# Altium integrated library AD Operational Amplifier.IntLib: 1114 symbols (part 4 of 13)
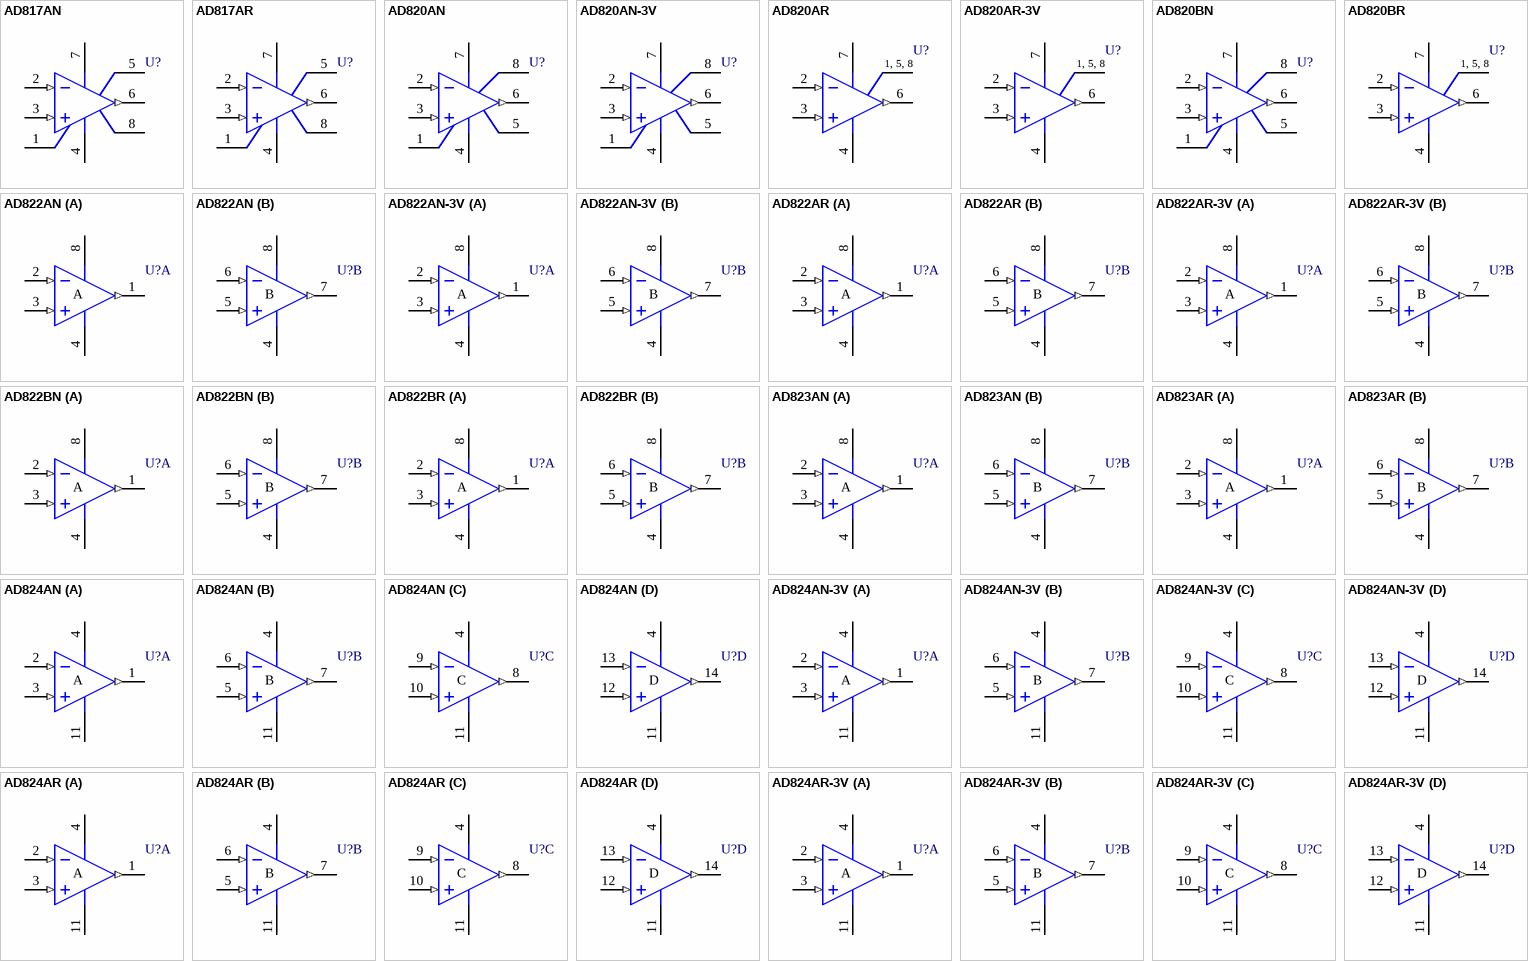
[diagram p49: symbols AD817AN to AD824AR-3V]

## AD817AR
designator U?
High-Speed, Low-Power Wide Supply Range Amplifier; Revision 1: 10-Jul-2000: SIM Model Added.; Revision 2: 17-Jul-2002: Re-released for DXP Platform.; Package Information: Latest Revision: revA; Note: Pin 5 is not connected.; Code - JEDEC: MS-012-AA; Code - IPC: SO8; Published: 8-Jun-2000; Datasheet: Latest Revision: REV. B 1995; Package Reference: SO-8; Publisher: Altium Limited
footprint SO-8 (Small Outline; 8 Leads; Body Width 3.9 mm; Pitch 1.27 mm)
simulation model AD817A (SUBCKT)
pins: 1 NULL1, 2 IN- (in), 3 IN+ (in), 4 V- (power), 5 NC, 6 OUT (out), 7 V+ (power), 8 NULL2

## AD820AN
designator U?
Single-Supply, Rail-to-Rail Low-Power FET-Input Operational Amplifier; Revision 1: 10-Jul-2000: SIM Model Added.; Revision 2: 17-Jul-2002: Re-released for DXP Platform.; Package Information: Latest Revision: revA; Note: Pin 8 is not connected.; Published: 8-Jun-2000; Datasheet: Designer's Reference Manual CD (REV. A); Package Reference: N-8; Publisher: Altium Limited
footprint N-8 (DIP; 8 Leads; Row Spacing 7.62 mm; Pitch 2.54 mm)
simulation model AD820A (SUBCKT)
pins: 1 OS NULL, 2 IN- (in), 3 IN+ (in), 4 V- (power), 5 OS NULL, 6 OUT (out), 7 V+ (power), 8 NC

## AD820AN-3V
designator U?
Single-Supply, Rail-to-Rail Low-Power FET-Input Operational Amplifier; Revision 1: 10-Jul-2000: SIM Model Added.; Revision 2: 17-Jul-2002: Re-released for DXP Platform.; Package Information: Latest Revision: revA; Note: Pin 8 is not connected.; Published: 8-Jun-2000; Datasheet: Designer's Reference Manual CD (REV. A); Package Reference: N-8; Publisher: Altium Limited
footprint N-8 (DIP; 8 Leads; Row Spacing 7.62 mm; Pitch 2.54 mm)
simulation model AD820A (SUBCKT)
pins: 1 OS NULL, 2 IN- (in), 3 IN+ (in), 4 V- (power), 5 OS NULL, 6 OUT (out), 7 V+ (power), 8 NC

## AD820AR
designator U?
Single-Supply, Rail-to-Rail Low-Power FET-Input Operational Amplifier; Revision 1: 10-Jul-2000: SIM Model Added.; Revision 2: 17-Jul-2002: Re-released for DXP Platform.; Package Information: Latest Revision: 1998; Note: Pins 1, 5 and 8 are not connected.; Published: 8-Jun-2000; Datasheet: Designer's Reference Manual CD (REV. A); Package Reference: R-8D; Publisher: Altium Limited
footprint R-8D (Small Outline; 8 Leads; Body Width 3.9 mm; Pitch 1.27 mm)
simulation model AD820A (SUBCKT)
pins: 1 NC, 2 IN- (in), 3 IN+ (in), 4 V- (power), 5 NC, 6 OUT (out), 7 V+ (power), 8 NC
text: 1, 5, 8

## AD820AR-3V
designator U?
Single-Supply, Rail-to-Rail Low-Power FET-Input Operational Amplifier; Revision 1: 10-Jul-2000: SIM Model Added.; Revision 2: 17-Jul-2002: Re-released for DXP Platform.; Package Information: Latest Revision: 1998; Note: Pins 1, 5 and 8 are not connected.; Published: 8-Jun-2000; Datasheet: Designer's Reference Manual CD (REV. A); Package Reference: R-8D; Publisher: Altium Limited
footprint R-8D (Small Outline; 8 Leads; Body Width 3.9 mm; Pitch 1.27 mm)
simulation model AD820A (SUBCKT)
pins: 1 NC, 2 IN- (in), 3 IN+ (in), 4 V- (power), 5 NC, 6 OUT (out), 7 V+ (power), 8 NC
text: 1, 5, 8

## AD820BN
designator U?
Single-Supply, Rail-to-Rail Low-Power FET-Input Operational Amplifier; Revision 1: 10-Jul-2000: SIM Model Added.; Revision 2: 17-Jul-2002: Re-released for DXP Platform.; Package Information: Latest Revision: revA; Note: Pin 8 is not connected.; Published: 8-Jun-2000; Datasheet: Designer's Reference Manual CD (REV. A); Package Reference: N-8; Publisher: Altium Limited
footprint N-8 (DIP; 8 Leads; Row Spacing 7.62 mm; Pitch 2.54 mm)
simulation model AD820B (SUBCKT)
pins: 1 OS NULL, 2 IN- (in), 3 IN+ (in), 4 V- (power), 5 OS NULL, 6 OUT (out), 7 V+ (power), 8 NC

## AD820BR
designator U?
Single-Supply, Rail-to-Rail Low-Power FET-Input Operational Amplifier; Revision 1: 10-Jul-2000: SIM Model Added.; Revision 2: 17-Jul-2002: Re-released for DXP Platform.; Package Information: Latest Revision: 1998; Note: Pins 1, 5 and 8 are not connected.; Published: 8-Jun-2000; Datasheet: Designer's Reference Manual CD (REV. A); Package Reference: R-8D; Publisher: Altium Limited
footprint R-8D (Small Outline; 8 Leads; Body Width 3.9 mm; Pitch 1.27 mm)
simulation model AD820B (SUBCKT)
pins: 1 NC, 2 IN- (in), 3 IN+ (in), 4 V- (power), 5 NC, 6 OUT (out), 7 V+ (power), 8 NC
text: 1, 5, 8

## AD822AN
designator U?
Single-Supply, Rail-to-Rail Low-Power FET-Input Operational Amplifier; Revision 1: 10-Jul-2000: SIM Model Added.; Revision 2: 17-Jul-2002: Re-released for DXP Platform.; Package Information: Latest Revision: revA; Published: 8-Jun-2000; Datasheet: Designer's Reference Manual CD (REV. A); Package Reference: N-8; Publisher: Altium Limited
footprint N-8 (DIP; 8 Leads; Row Spacing 7.62 mm; Pitch 2.54 mm)
simulation model AD822A (SUBCKT)
pins on every part: 4 V- (power), 8 V+ (power)
part A pins: 1 OUT (out), 2 IN- (in), 3 IN+ (in)
part B pins: 5 IN+ (in), 6 IN- (in), 7 OUT (out)
part A text: A
part B text: B

## AD822AN-3V
designator U?
Single-Supply, Rail-to-Rail Low-Power FET-Input Operational Amplifier; Revision 1: 10-Jul-2000: SIM Model Added.; Revision 2: 17-Jul-2002: Re-released for DXP Platform.; Package Information: Latest Revision: revA; Published: 8-Jun-2000; Datasheet: Designer's Reference Manual CD (REV. A); Package Reference: N-8; Publisher: Altium Limited
footprint N-8 (DIP; 8 Leads; Row Spacing 7.62 mm; Pitch 2.54 mm)
simulation model AD822A (SUBCKT)
pins on every part: 4 V- (power), 8 V+ (power)
part A pins: 1 OUT (out), 2 IN- (in), 3 IN+ (in)
part B pins: 5 IN+ (in), 6 IN- (in), 7 OUT (out)
part A text: A
part B text: B

## AD822AR
designator U?
Single-Supply, Rail-to-Rail Low-Power FET-Input Operational Amplifier; Revision 1: 10-Jul-2000: SIM Model Added.; Revision 2: 17-Jul-2002: Re-released for DXP Platform.; Package Information: Latest Revision: 1998; Published: 8-Jun-2000; Datasheet: Designer's Reference Manual CD (REV. A); Package Reference: R-8D; Publisher: Altium Limited
footprint R-8D (Small Outline; 8 Leads; Body Width 3.9 mm; Pitch 1.27 mm)
simulation model AD822A (SUBCKT)
pins on every part: 4 V- (power), 8 V+ (power)
part A pins: 1 OUT (out), 2 IN- (in), 3 IN+ (in)
part B pins: 5 IN+ (in), 6 IN- (in), 7 OUT (out)
part A text: A
part B text: B

## AD822AR-3V
designator U?
Single-Supply, Rail-to-Rail Low-Power FET-Input Operational Amplifier; Revision 1: 10-Jul-2000: SIM Model Added.; Revision 2: 17-Jul-2002: Re-released for DXP Platform.; Package Information: Latest Revision: 1998; Published: 8-Jun-2000; Datasheet: Designer's Reference Manual CD (REV. A); Package Reference: R-8D; Publisher: Altium Limited
footprint R-8D (Small Outline; 8 Leads; Body Width 3.9 mm; Pitch 1.27 mm)
simulation model AD822A (SUBCKT)
pins on every part: 4 V- (power), 8 V+ (power)
part A pins: 1 OUT (out), 2 IN- (in), 3 IN+ (in)
part B pins: 5 IN+ (in), 6 IN- (in), 7 OUT (out)
part A text: A
part B text: B

## AD822BN
designator U?
Single-Supply, Rail-to-Rail Low-Power FET-Input Operational Amplifier; Revision 1: 10-Jul-2000: SIM Model Added.; Revision 2: 17-Jul-2002: Re-released for DXP Platform.; Package Information: Latest Revision: revA; Published: 8-Jun-2000; Datasheet: Designer's Reference Manual CD (REV. A); Package Reference: N-8; Publisher: Altium Limited
footprint N-8 (DIP; 8 Leads; Row Spacing 7.62 mm; Pitch 2.54 mm)
simulation model AD822B (SUBCKT)
pins on every part: 4 V- (power), 8 V+ (power)
part A pins: 1 OUT (out), 2 IN- (in), 3 IN+ (in)
part B pins: 5 IN+ (in), 6 IN- (in), 7 OUT (out)
part A text: A
part B text: B

## AD822BR
designator U?
Single-Supply, Rail-to-Rail Low-Power FET-Input Operational Amplifier; Revision 1: 10-Jul-2000: SIM Model Added.; Revision 2: 17-Jul-2002: Re-released for DXP Platform.; Package Information: Latest Revision: 1998; Published: 8-Jun-2000; Datasheet: Designer's Reference Manual CD (REV. A); Package Reference: R-8D; Publisher: Altium Limited
footprint R-8D (Small Outline; 8 Leads; Body Width 3.9 mm; Pitch 1.27 mm)
simulation model AD822B (SUBCKT)
pins on every part: 4 V- (power), 8 V+ (power)
part A pins: 1 OUT (out), 2 IN- (in), 3 IN+ (in)
part B pins: 5 IN+ (in), 6 IN- (in), 7 OUT (out)
part A text: A
part B text: B

## AD823AN
designator U?
Dual, 16MHz, Rail-to-Rail FET-Input Amplifier; Revision 1: 10-Jul-2000: SIM Model Added.; Revision 2: 17-Jul-2002: Re-released for DXP Platform.; Package Information: Latest Revision: revA; Published: 8-Jun-2000; Datasheet: Latest Revision: REV. 0 1995; Package Reference: N-8; Publisher: Altium Limited
footprint N-8 (DIP; 8 Leads; Row Spacing 7.62 mm; Pitch 2.54 mm)
simulation model AD823AN (SUBCKT)
pins on every part: 4 V- (power), 8 V+ (power)
part A pins: 1 OUT (out), 2 IN- (in), 3 IN+ (in)
part B pins: 5 IN+ (in), 6 IN- (in), 7 OUT (out)
part A text: A
part B text: B

## AD823AR
designator U?
Dual, 16MHz, Rail-to-Rail FET-Input Amplifier; Revision 1: 10-Jul-2000: SIM Model Added.; Revision 2: 17-Jul-2002: Re-released for DXP Platform.; Package Information: Latest Revision: revA; Code - JEDEC: MS-012-AA; Code - IPC: SO8; Published: 8-Jun-2000; Datasheet: Latest Revision: REV. 0 1995; Package Reference: SO-8; Publisher: Altium Limited
footprint SO-8 (Small Outline; 8 Leads; Body Width 3.9 mm; Pitch 1.27 mm)
simulation model AD823AN (SUBCKT)
pins on every part: 4 V- (power), 8 V+ (power)
part A pins: 1 OUT (out), 2 IN- (in), 3 IN+ (in)
part B pins: 5 IN+ (in), 6 IN- (in), 7 OUT (out)
part A text: A
part B text: B

## AD824AN
designator U?
Single-Supply, Rail-to-Rail Low-Power, FET-Input Operational Amplifier; Package Information: Latest Revision: 1999; Published: 8-Jun-2000; Revision: 17-Jul-2002: Re-released for DXP Platform.; Datasheet: Latest Revision: REV. A 1997; Package Reference: N-14; Publisher: Altium Limited
footprint N-14 (DIP; 14 Leads; Row Spacing 7.62 mm; Pitch 2.54 mm)
pins on every part: 4 V+ (power), 11 V- (power)
part A pins: 1 OUT (out), 2 IN- (in), 3 IN+ (in)
part B pins: 5 IN+ (in), 6 IN- (in), 7 OUT (out)
part C pins: 8 OUT (out), 9 IN- (in), 10 IN+ (in)
part D pins: 12 IN+ (in), 13 IN- (in), 14 OUT (out)
part A text: A
part B text: B
part C text: C
part D text: D

## AD824AN-3V
designator U?
Single-Supply, Rail-to-Rail Low-Power, FET-Input Operational Amplifier; Package Information: Latest Revision: 1999; Published: 8-Jun-2000; Revision: 17-Jul-2002: Re-released for DXP Platform.; Datasheet: Latest Revision: REV. A 1997; Package Reference: N-14; Publisher: Altium Limited
footprint N-14 (DIP; 14 Leads; Row Spacing 7.62 mm; Pitch 2.54 mm)
pins on every part: 4 V+ (power), 11 V- (power)
part A pins: 1 OUT (out), 2 IN- (in), 3 IN+ (in)
part B pins: 5 IN+ (in), 6 IN- (in), 7 OUT (out)
part C pins: 8 OUT (out), 9 IN- (in), 10 IN+ (in)
part D pins: 12 IN+ (in), 13 IN- (in), 14 OUT (out)
part A text: A
part B text: B
part C text: C
part D text: D

## AD824AR
designator U?
Single-Supply, Rail-to-Rail Low-Power, FET-Input Operational Amplifier; Package Information: Latest Revision: rev0, 1997; Code - JEDEC: MS-012-AB; Code - IPC: SO14; Published: 8-Jun-2000; Revision: 17-Jul-2002: Re-released for DXP Platform.; Datasheet: Latest Revision: REV. A 1997; Package Reference: R-14; Publisher: Altium Limited
footprint R-14 (Small Outline; 14 Leads; Body Width 3.9 mm; Pitch 1.27 mm)
pins on every part: 4 V+ (power), 11 V- (power)
part A pins: 1 OUT (out), 2 IN- (in), 3 IN+ (in)
part B pins: 5 IN+ (in), 6 IN- (in), 7 OUT (out)
part C pins: 8 OUT (out), 9 IN- (in), 10 IN+ (in)
part D pins: 12 IN+ (in), 13 IN- (in), 14 OUT (out)
part A text: A
part B text: B
part C text: C
part D text: D

## AD824AR-3V
designator U?
Single-Supply, Rail-to-Rail Low-Power, FET-Input Operational Amplifier; Package Information: Latest Revision: rev0, 1997; Code - JEDEC: MS-012-AB; Code - IPC: SO14; Published: 8-Jun-2000; Revision: 17-Jul-2002: Re-released for DXP Platform.; Datasheet: Latest Revision: REV. A 1997; Package Reference: R-14; Publisher: Altium Limited
footprint R-14 (Small Outline; 14 Leads; Body Width 3.9 mm; Pitch 1.27 mm)
pins on every part: 4 V+ (power), 11 V- (power)
part A pins: 1 OUT (out), 2 IN- (in), 3 IN+ (in)
part B pins: 5 IN+ (in), 6 IN- (in), 7 OUT (out)
part C pins: 8 OUT (out), 9 IN- (in), 10 IN+ (in)
part D pins: 12 IN+ (in), 13 IN- (in), 14 OUT (out)
part A text: A
part B text: B
part C text: C
part D text: D

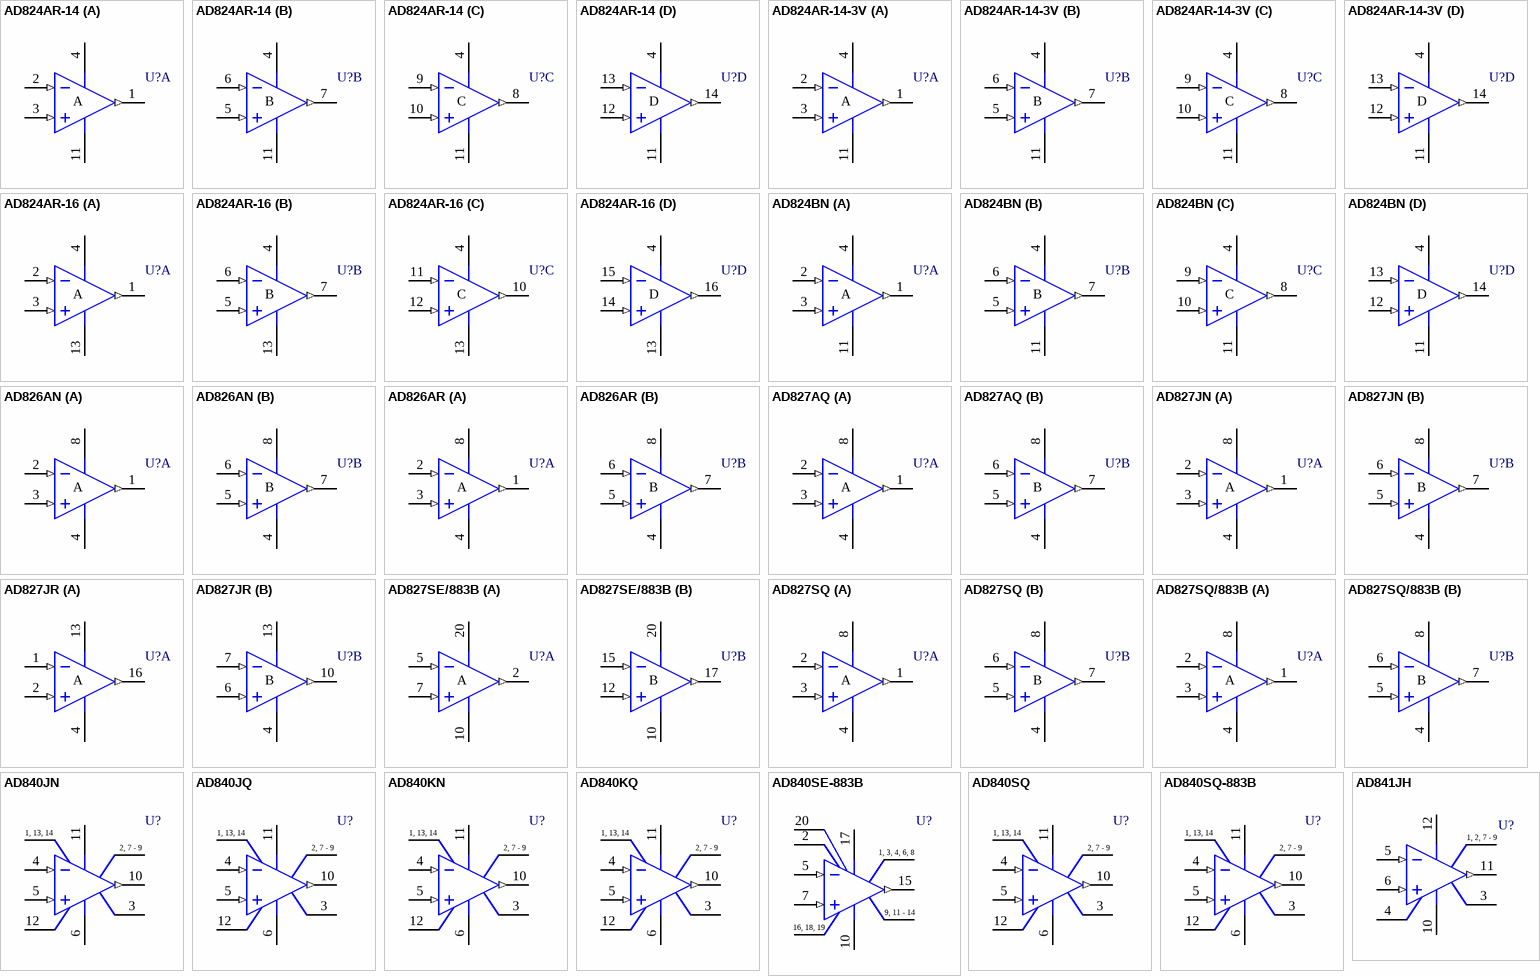
[diagram p11: symbols AD824AR-14 to AD841JH]

## AD824AR-14
designator U?
Single-Supply, Rail-to-Rail Low-Power, FET-Input Operational Amplifier; Package Information: Latest Revision: rev0, 1997; Code - JEDEC: MS-012-AB; Code - IPC: SO14; Published: 8-Jun-2000; Revision: 17-Jul-2002: Re-released for DXP Platform.; Datasheet: Latest Revision: REV. A 1997; Package Reference: R-14; Publisher: Altium Limited
footprint R-14 (Small Outline; 14 Leads; Body Width 3.9 mm; Pitch 1.27 mm)
pins on every part: 4 V+ (power), 11 V- (power)
part A pins: 1 OUT (out), 2 IN- (in), 3 IN+ (in)
part B pins: 5 IN+ (in), 6 IN- (in), 7 OUT (out)
part C pins: 8 OUT (out), 9 IN- (in), 10 IN+ (in)
part D pins: 12 IN+ (in), 13 IN- (in), 14 OUT (out)
part A text: A
part B text: B
part C text: C
part D text: D

## AD824AR-14-3V
designator U?
Single-Supply, Rail-to-Rail Low-Power, FET-Input Operational Amplifier; Package Information: Latest Revision: rev0, 1997; Code - JEDEC: MS-012-AB; Code - IPC: SO14; Published: 8-Jun-2000; Revision: 17-Jul-2002: Re-released for DXP Platform.; Datasheet: Latest Revision: REV. A 1997; Package Reference: R-14; Publisher: Altium Limited
footprint R-14 (Small Outline; 14 Leads; Body Width 3.9 mm; Pitch 1.27 mm)
pins on every part: 4 V+ (power), 11 V- (power)
part A pins: 1 OUT (out), 2 IN- (in), 3 IN+ (in)
part B pins: 5 IN+ (in), 6 IN- (in), 7 OUT (out)
part C pins: 8 OUT (out), 9 IN- (in), 10 IN+ (in)
part D pins: 12 IN+ (in), 13 IN- (in), 14 OUT (out)
part A text: A
part B text: B
part C text: C
part D text: D

## AD824AR-16
designator U?
Single-Supply, Rail-to-Rail Low-Power, FET-Input Operational Amplifier; Revision 1: 17-Jul-2002: Re-released for DXP Platform.; Revision 2: 21-May-2003: Pin 10 electrical type changed to 'Output'.; Package Information: Latest Revision: revA 1996; Note: Pins 8 and 9 are not connected; Code - JEDEC: MS-013-AA; Code - IPC: SO16W; Published: 8-Jun-2000; Datasheet: Latest Revision: REV. A 1997; Package Reference: R-16; Publisher: Altium Limited
footprint R-16 (Small Outline; 16 Leads; Body Width 7.5 mm; Pitch 1.27 mm)
pins on every part: 4 V+ (power), 13 V- (power)
part A pins: 1 OUT (out), 2 IN- (in), 3 IN+ (in)
part B pins: 5 IN+ (in), 6 IN- (in), 7 OUT (out)
part C pins: 10 OUT (out), 11 IN- (in), 12 IN+ (in)
part D pins: 14 IN+ (in), 15 IN- (in), 16 OUT (out)
part A text: A
part B text: B
part C text: C
part D text: D

## AD824BN
designator U?
Single-Supply, Rail-to-Rail Low-Power, FET-Input Operational Amplifier; Revision 1: 10-Jul-2000: SIM Model Added.; Revision 2: 17-Jul-2002: Re-released for DXP Platform.; Package Information: Latest Revision: 1999; Published: 8-Jun-2000; Datasheet: Latest Revision: REV. A 1997; Package Reference: N-14; Publisher: Altium Limited
footprint N-14 (DIP; 14 Leads; Row Spacing 7.62 mm; Pitch 2.54 mm)
simulation model AD824B (SUBCKT)
pins on every part: 4 V+ (power), 11 V- (power)
part A pins: 1 OUT (out), 2 IN- (in), 3 IN+ (in)
part B pins: 5 IN+ (in), 6 IN- (in), 7 OUT (out)
part C pins: 8 OUT (out), 9 IN- (in), 10 IN+ (in)
part D pins: 12 IN+ (in), 13 IN- (in), 14 OUT (out)
part A text: A
part B text: B
part C text: C
part D text: D

## AD826AN
designator U?
High-Speed, Low-Power Dual Operational Amplifier; Revision 1: 10-Jul-2000: SIM Model Added.; Revision 2: 17-Jul-2002: Re-released for DXP Platform.; Package Information: Latest Revision: revA; Published: 8-Jun-2000; Datasheet: Latest Revision: REV. A 1995; Package Reference: N-8; Publisher: Altium Limited
footprint N-8 (DIP; 8 Leads; Row Spacing 7.62 mm; Pitch 2.54 mm)
simulation model AD826A (SUBCKT)
pins on every part: 4 V- (power), 8 V+ (power)
part A pins: 1 OUT (out), 2 IN- (in), 3 IN+ (in)
part B pins: 5 IN+ (in), 6 IN- (in), 7 OUT (out)
part A text: A
part B text: B

## AD826AR
designator U?
High-Speed, Low-Power Dual Operational Amplifier; Revision 1: 10-Jul-2000: SIM Model Added.; Revision 2: 17-Jul-2002: Re-released for DXP Platform.; Package Information: Latest Revision: 1998; Published: 8-Jun-2000; Datasheet: Latest Revision: REV. A 1995; Package Reference: R-8D; Publisher: Altium Limited
footprint R-8D (Small Outline; 8 Leads; Body Width 3.9 mm; Pitch 1.27 mm)
simulation model AD826A (SUBCKT)
pins on every part: 4 V- (power), 8 V+ (power)
part A pins: 1 OUT (out), 2 IN- (in), 3 IN+ (in)
part B pins: 5 IN+ (in), 6 IN- (in), 7 OUT (out)
part A text: A
part B text: B

## AD827AQ
designator U?
High-Speed, Low-Power Dual Operational Amplifier; Package Information: Latest Revision: 1998; Published: 8-Jun-2000; Revision: 17-Jul-2002: Re-released for DXP Platform.; Datasheet: Latest Revision: REV. B; Package Reference: Q-8; Publisher: Altium Limited
footprint Q-8 (DIP; 8 Leads; Row Spacing 7.62 mm; Pitch 2.54 mm)
pins on every part: 4 V- (power), 8 V+ (power)
part A pins: 1 OUT (out), 2 IN- (in), 3 IN+ (in)
part B pins: 5 IN+ (in), 6 IN- (in), 7 OUT (out)
part A text: A
part B text: B

## AD827JN
designator U?
High-Speed, Low-Power Dual Operational Amplifier; Package Information: Latest Revision: revA; Published: 8-Jun-2000; Revision: 17-Jul-2002: Re-released for DXP Platform.; Datasheet: Latest Revision: REV. B; Package Reference: N-8; Publisher: Altium Limited
footprint N-8 (DIP; 8 Leads; Row Spacing 7.62 mm; Pitch 2.54 mm)
pins on every part: 4 V- (power), 8 V+ (power)
part A pins: 1 OUT (out), 2 IN- (in), 3 IN+ (in)
part B pins: 5 IN+ (in), 6 IN- (in), 7 OUT (out)
part A text: A
part B text: B

## AD827JR
designator U?
High-Speed, Low-Power Dual Operational Amplifier; Package Information: Latest Revision: revA 1996; Note: Pins 3, 5, 8, 9, 11, 12, 14 and 15 are not connected (NC) and are not drawn.; Code - JEDEC: MS-013-AA; Code - IPC: SO16W; Published: 8-Jun-2000; Revision: 17-Jul-2002: Re-released for DXP Platform.; Datasheet: Latest Revision: REV. B; Package Reference: R-16; Publisher: Altium Limited
footprint R-16 (Small Outline; 16 Leads; Body Width 7.5 mm; Pitch 1.27 mm)
pins on every part: 4 V- (power), 13 V+ (power)
part A pins: 1 IN- (in), 2 IN+ (in), 16 OUT (out)
part B pins: 6 IN+ (in), 7 IN- (in), 10 OUT (out)
part A text: A
part B text: B

## AD827SE/883B
designator U?
High-Speed, Low-Power Dual Operational Amplifier; Note: Pins 1, 3, 4, 6, 8, 9, 11, 13, 14, 16, 18 and 19 are not connected (NC) and are not drawn.; Published: 8-Jun-2000; Revision: 17-Jul-2002: Re-released for DXP Platform.; Datasheet: Latest Revision: REV. B; Package Reference: E-20A; Publisher: Altium Limited
footprint E-20A (Leadless Chip Carrier; 20 Terminals; Body 8.9 x 8.9 mm)
pins on every part: 10 V- (power), 20 V+ (power)
part A pins: 2 OUT (out), 5 IN- (in), 7 IN+ (in)
part B pins: 12 IN+ (in), 15 IN- (in), 17 OUT (out)
part A text: A
part B text: B

## AD827SQ
designator U?
High-Speed, Low-Power Dual Operational Amplifier; Package Information: Latest Revision: 1998; Published: 8-Jun-2000; Revision: 17-Jul-2002: Re-released for DXP Platform.; Datasheet: Latest Revision: REV. B; Package Reference: Q-8; Publisher: Altium Limited
footprint Q-8 (DIP; 8 Leads; Row Spacing 7.62 mm; Pitch 2.54 mm)
pins on every part: 4 V- (power), 8 V+ (power)
part A pins: 1 OUT (out), 2 IN- (in), 3 IN+ (in)
part B pins: 5 IN+ (in), 6 IN- (in), 7 OUT (out)
part A text: A
part B text: B

## AD827SQ/883B
designator U?
High-Speed, Low-Power Dual Operational Amplifier; Package Information: Latest Revision: 1998; Published: 8-Jun-2000; Revision: 17-Jul-2002: Re-released for DXP Platform.; Datasheet: Latest Revision: REV. B; Package Reference: Q-8; Publisher: Altium Limited
footprint Q-8 (DIP; 8 Leads; Row Spacing 7.62 mm; Pitch 2.54 mm)
pins on every part: 4 V- (power), 8 V+ (power)
part A pins: 1 OUT (out), 2 IN- (in), 3 IN+ (in)
part B pins: 5 IN+ (in), 6 IN- (in), 7 OUT (out)
part A text: A
part B text: B

## AD840JN
designator U?
Wideband, Fast-Settling Operational Amplifier; Revision 1: 10-Jul-2000: SIM Model Added.; Revision 2: 17-Jul-2002: Re-released for DXP Platform.; Package Information: Latest Revision: revC; Note: Pins 1, 2, 7, 8, 9, 13 and 14 are not connected.; Published: 8-Jun-2000; Datasheet: Designer's Reference Manual CD (REV. C); Package Reference: N-14B; Publisher: Altium Limited
footprint N-14B (DIP; 14 Leads; Row Spacing 7.62 mm; Pitch 2.54 mm)
simulation model AD840J (SUBCKT)
pins: 1 NC, 2 NC, 3 OS NULL, 4 IN- (in), 5 IN+ (in), 6 V- (power), 7 NC, 8 NC, 9 NC, 10 OUT (out), 11 V+ (power), 12 OS NULL, 13 NC, 14 NC
text: 1, 13, 14; 2, 7 - 9

## AD840JQ
designator U?
Wideband, Fast-Settling Operational Amplifier; Revision 1: 10-Jul-2000: SIM Model Added.; Revision 2: 17-Jul-2002: Re-released for DXP Platform.; Package Information: Latest Revision: revC; Note: Pins 1, 2, 7, 8, 9, 13 and 14 are not connected.; Published: 8-Jun-2000; Datasheet: Designer's Reference Manual CD (REV. C); Package Reference: Q-14A; Publisher: Altium Limited
footprint Q-14A (DIP; 14 Leads; Row Spacing 7.62 mm; Pitch 2.54 mm)
simulation model AD840J (SUBCKT)
pins: 1 NC, 2 NC, 3 OS NULL, 4 IN- (in), 5 IN+ (in), 6 V- (power), 7 NC, 8 NC, 9 NC, 10 OUT (out), 11 V+ (power), 12 OS NULL, 13 NC, 14 NC
text: 1, 13, 14; 2, 7 - 9

## AD840KN
designator U?
Wideband, Fast-Settling Operational Amplifier; Revision 1: 10-Jul-2000: SIM Model Added.; Revision 2: 17-Jul-2002: Re-released for DXP Platform.; Package Information: Latest Revision: revC; Note: Pins 1, 2, 7, 8, 9, 13 and 14 are not connected.; Published: 8-Jun-2000; Datasheet: Designer's Reference Manual CD (REV. C); Package Reference: N-14B; Publisher: Altium Limited
footprint N-14B (DIP; 14 Leads; Row Spacing 7.62 mm; Pitch 2.54 mm)
simulation model AD840K (SUBCKT)
pins: 1 NC, 2 NC, 3 OS NULL, 4 IN- (in), 5 IN+ (in), 6 V- (power), 7 NC, 8 NC, 9 NC, 10 OUT (out), 11 V+ (power), 12 OS NULL, 13 NC, 14 NC
text: 1, 13, 14; 2, 7 - 9

## AD840KQ
designator U?
Wideband, Fast-Settling Operational Amplifier; Revision 1: 10-Jul-2000: SIM Model Added.; Revision 2: 17-Jul-2002: Re-released for DXP Platform.; Package Information: Latest Revision: revC; Note: Pins 1, 2, 7, 8, 9, 13 and 14 are not connected.; Published: 8-Jun-2000; Datasheet: Designer's Reference Manual CD (REV. C); Package Reference: Q-14A; Publisher: Altium Limited
footprint Q-14A (DIP; 14 Leads; Row Spacing 7.62 mm; Pitch 2.54 mm)
simulation model AD840K (SUBCKT)
pins: 1 NC, 2 NC, 3 OS NULL, 4 IN- (in), 5 IN+ (in), 6 V- (power), 7 NC, 8 NC, 9 NC, 10 OUT (out), 11 V+ (power), 12 OS NULL, 13 NC, 14 NC
text: 1, 13, 14; 2, 7 - 9

## AD840SE-883B
designator U?
Wideband, Fast-Settling Operational Amplifier; Revision 1: 10-Jul-2000: SIM Model Added.; Revision 2: 17-Jul-2002: Re-released for DXP Platform.; Note: Pins 1, 3, 4, 6, 8, 9, 11, 12, 13, 14, 16, 18 and 19 are not connected.; Published: 8-Jun-2000; Datasheet: Designer's Reference Manual CD (REV. C); Package Reference: E-20A; Publisher: Altium Limited
footprint E-20A (Leadless Chip Carrier; 20 Terminals; Body 8.9 x 8.9 mm)
simulation model AD840S (SUBCKT)
pins: 1 NC, 2 OS NULL, 3 NC, 4 NC, 5 IN- (in), 6 NC, 7 IN+ (in), 8 NC, 9 NC, 10 V- (power), 11 NC, 12 NC, 13 NC, 14 NC, 15 OUT (out), 16 NC, 17 V+ (power), 18 NC, 19 NC, 20 OS NULL
text: 1, 3, 4, 6, 8; 9, 11 - 14; 16, 18, 19

## AD840SQ
designator U?
Wideband, Fast-Settling Operational Amplifier; Revision 1: 10-Jul-2000: SIM Model Added.; Revision 2: 17-Jul-2002: Re-released for DXP Platform.; Package Information: Latest Revision: revC; Note: Pins 1, 2, 7, 8, 9, 13 and 14 are not connected.; Published: 8-Jun-2000; Datasheet: Designer's Reference Manual CD (REV. C); Package Reference: Q-14A; Publisher: Altium Limited
footprint Q-14A (DIP; 14 Leads; Row Spacing 7.62 mm; Pitch 2.54 mm)
simulation model AD840S (SUBCKT)
pins: 1 NC, 2 NC, 3 OS NULL, 4 IN- (in), 5 IN+ (in), 6 V- (power), 7 NC, 8 NC, 9 NC, 10 OUT (out), 11 V+ (power), 12 OS NULL, 13 NC, 14 NC
text: 1, 13, 14; 2, 7 - 9

## AD840SQ-883B
designator U?
Wideband, Fast-Settling Operational Amplifier; Revision 1: 10-Jul-2000: SIM Model Added.; Revision 2: 17-Jul-2002: Re-released for DXP Platform.; Package Information: Latest Revision: revC; Note: Pins 1, 2, 7, 8, 9, 13 and 14 are not connected.; Published: 8-Jun-2000; Datasheet: Designer's Reference Manual CD (REV. C); Package Reference: Q-14A; Publisher: Altium Limited
footprint Q-14A (DIP; 14 Leads; Row Spacing 7.62 mm; Pitch 2.54 mm)
simulation model AD840S (SUBCKT)
pins: 1 NC, 2 NC, 3 OS NULL, 4 IN- (in), 5 IN+ (in), 6 V- (power), 7 NC, 8 NC, 9 NC, 10 OUT (out), 11 V+ (power), 12 OS NULL, 13 NC, 14 NC
text: 1, 13, 14; 2, 7 - 9

## AD841JH
designator U?
Wideband, Unity-Gain Stable, Fast-Settling Operational Amplifier; Revision 1: 17-Jul-2002: Re-released for DXP Platform.; Revision 2: 28-Feb-2003: PCB Footprint, 'QCAN-12/X1.4' replaced.; Package Information: Latest Revision: revC, 1990; Note: Pins 1, 2, 7, 8 and 9 are not connected; Pin 12 connected to case; Published: 8-Jun-2000; Datasheet: Latest Revision: REV. B; Package Reference: H-12A; Publisher: Altium Limited
footprint H-12A (Can; 12 Leads; 10.16 mm Square Array; Lead Dia. 0.53 mm (max))
pins: 1 NC, 2 NC, 3 BAL, 4 BAL, 5 IN- (in), 6 IN+ (in), 7 NC, 8 NC, 9 NC, 10 V- (power), 11 OUT (out), 12 V+ (power)
text: 1, 2, 7 - 9

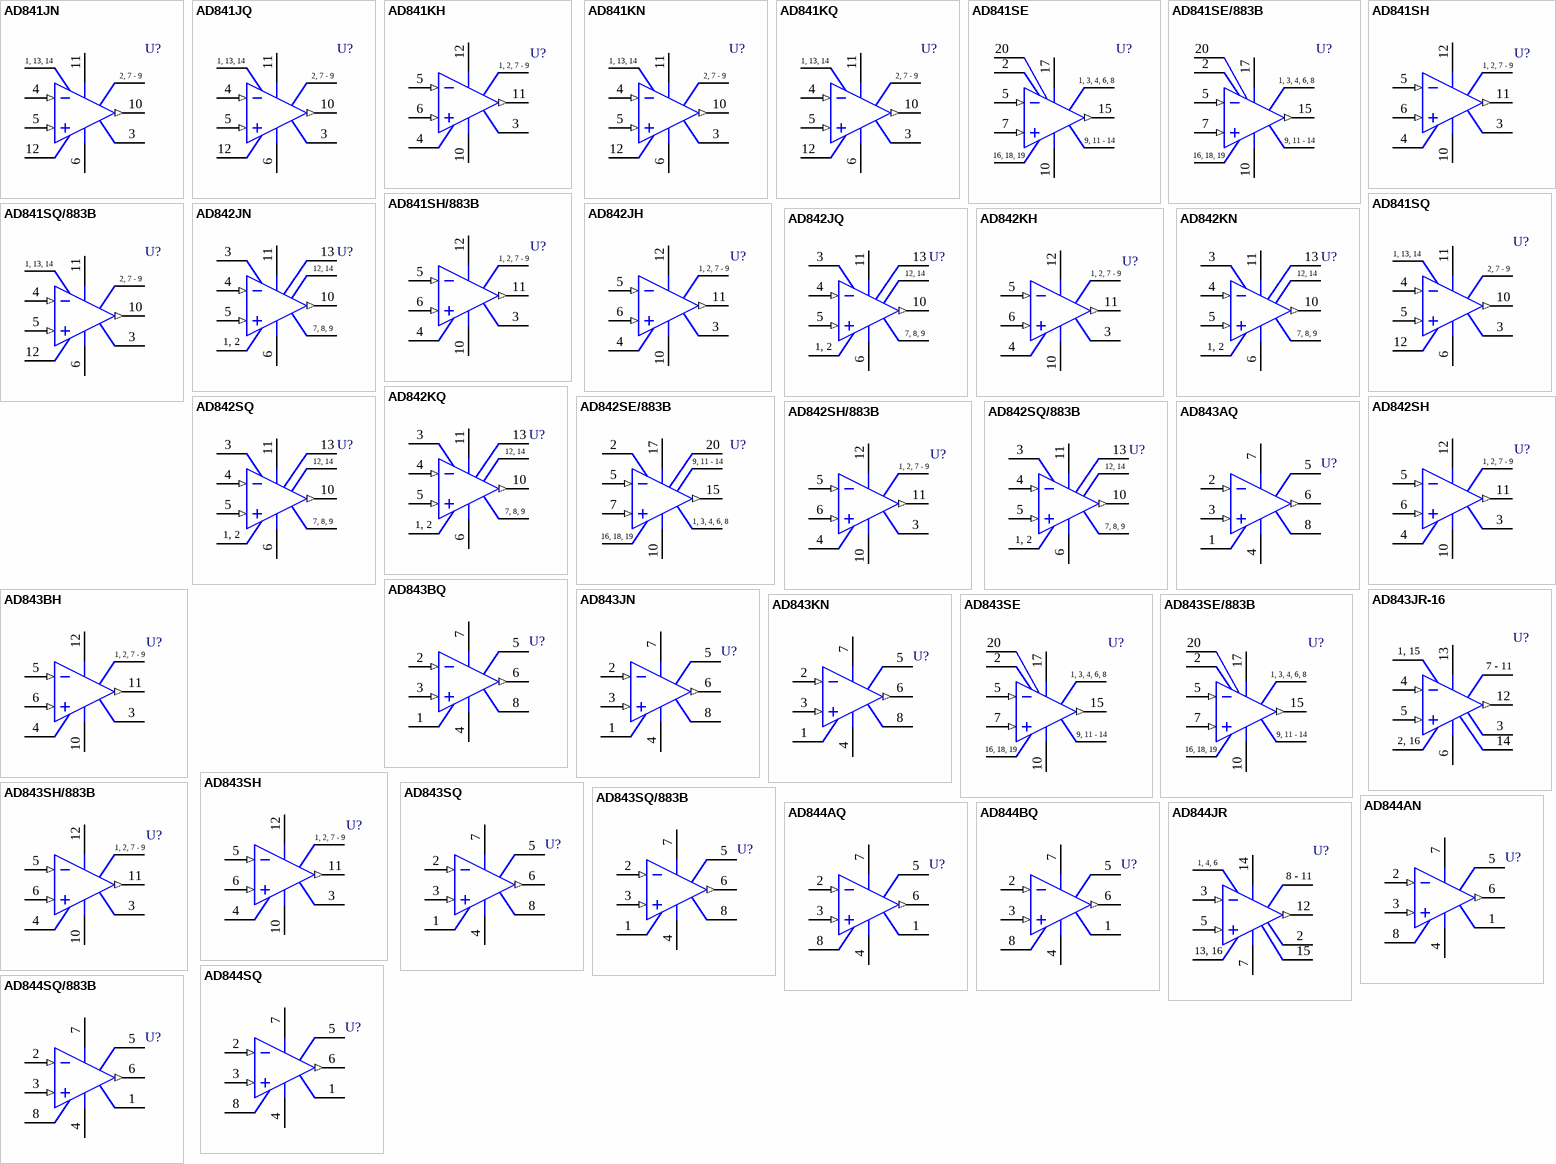
[diagram p12: symbols AD841JN to AD844SQ/883B]

## AD841JN
designator U?
Wideband, Unity-Gain Stable, Fast-Settling Operational Amplifier; Package Information: Latest Revision: revC; Note: Pins 1, 2, 7, 8, 9, 13 and 14 are not connected.; Published: 8-Jun-2000; Revision: 17-Jul-2002: Re-released for DXP Platform.; Datasheet: Latest Revision: REV. B; Package Reference: N-14B; Publisher: Altium Limited
footprint N-14B (DIP; 14 Leads; Row Spacing 7.62 mm; Pitch 2.54 mm)
pins: 1 NC, 2 NC, 3 OS NULL, 4 IN- (in), 5 IN+ (in), 6 V- (power), 7 NC, 8 NC, 9 NC, 10 OUT (out), 11 V+ (power), 12 OS NULL, 13 NC, 14 NC
text: 1, 13, 14; 2, 7 - 9

## AD841JQ
designator U?
Wideband, Unity-Gain Stable, Fast-Settling Operational Amplifier; Package Information: Latest Revision: revC; Note: Pins 1, 2, 7, 8, 9, 13 and 14 are not connected.; Published: 8-Jun-2000; Revision: 17-Jul-2002: Re-released for DXP Platform.; Datasheet: Latest Revision: REV. B; Package Reference: Q-14A; Publisher: Altium Limited
footprint Q-14A (DIP; 14 Leads; Row Spacing 7.62 mm; Pitch 2.54 mm)
pins: 1 NC, 2 NC, 3 OS NULL, 4 IN- (in), 5 IN+ (in), 6 V- (power), 7 NC, 8 NC, 9 NC, 10 OUT (out), 11 V+ (power), 12 OS NULL, 13 NC, 14 NC
text: 1, 13, 14; 2, 7 - 9

## AD841KH
designator U?
Wideband, Unity-Gain Stable, Fast-Settling Operational Amplifier; Revision 1: 17-Jul-2002: Re-released for DXP Platform.; Revision 2: 28-Feb-2003: PCB Footprint, 'QCAN-12/X1.4' replaced.; Package Information: Latest Revision: revC, 1990; Note: Pins 1, 2, 7, 8 and 9 are not connected; Pin 12 connected to case; Published: 8-Jun-2000; Datasheet: Latest Revision: REV. B; Package Reference: H-12A; Publisher: Altium Limited
footprint H-12A (Can; 12 Leads; 10.16 mm Square Array; Lead Dia. 0.53 mm (max))
pins: 1 NC, 2 NC, 3 BAL, 4 BAL, 5 IN- (in), 6 IN+ (in), 7 NC, 8 NC, 9 NC, 10 V- (power), 11 OUT (out), 12 V+ (power)
text: 1, 2, 7 - 9

## AD841KN
designator U?
Wideband, Unity-Gain Stable, Fast-Settling Operational Amplifier; Package Information: Latest Revision: revC; Note: Pins 1, 2, 7, 8, 9, 13 and 14 are not connected.; Published: 8-Jun-2000; Revision: 17-Jul-2002: Re-released for DXP Platform.; Datasheet: Latest Revision: REV. B; Package Reference: N-14B; Publisher: Altium Limited
footprint N-14B (DIP; 14 Leads; Row Spacing 7.62 mm; Pitch 2.54 mm)
pins: 1 NC, 2 NC, 3 OS NULL, 4 IN- (in), 5 IN+ (in), 6 V- (power), 7 NC, 8 NC, 9 NC, 10 OUT (out), 11 V+ (power), 12 OS NULL, 13 NC, 14 NC
text: 1, 13, 14; 2, 7 - 9

## AD841KQ
designator U?
Wideband, Unity-Gain Stable, Fast-Settling Operational Amplifier; Package Information: Latest Revision: revC; Note: Pins 1, 2, 7, 8, 9, 13 and 14 are not connected.; Published: 8-Jun-2000; Revision: 17-Jul-2002: Re-released for DXP Platform.; Datasheet: Latest Revision: REV. B; Package Reference: Q-14A; Publisher: Altium Limited
footprint Q-14A (DIP; 14 Leads; Row Spacing 7.62 mm; Pitch 2.54 mm)
pins: 1 NC, 2 NC, 3 OS NULL, 4 IN- (in), 5 IN+ (in), 6 V- (power), 7 NC, 8 NC, 9 NC, 10 OUT (out), 11 V+ (power), 12 OS NULL, 13 NC, 14 NC
text: 1, 13, 14; 2, 7 - 9

## AD841SE
designator U?
Wideband, Unity-Gain Stable, Fast-Settling Operational Amplifier; Note: Pins 1, 3, 4, 6, 8, 9, 11, 12, 13, 14, 16, 18 and 19 are not connected.; Published: 8-Jun-2000; Revision: 17-Jul-2002: Re-released for DXP Platform.; Datasheet: Latest Revision: REV. B; Package Reference: E-20A; Publisher: Altium Limited
footprint E-20A (Leadless Chip Carrier; 20 Terminals; Body 8.9 x 8.9 mm)
pins: 1 NC, 2 OS NULL, 3 NC, 4 NC, 5 IN- (in), 6 NC, 7 IN+ (in), 8 NC, 9 NC, 10 V- (power), 11 NC, 12 NC, 13 NC, 14 NC, 15 OUT (out), 16 NC, 17 V+ (power), 18 NC, 19 NC, 20 OS NULL
text: 1, 3, 4, 6, 8; 9, 11 - 14; 16, 18, 19

## AD841SE/883B
designator U?
Wideband, Unity-Gain Stable, Fast-Settling Operational Amplifier; Note: Pins 1, 3, 4, 6, 8, 9, 11, 12, 13, 14, 16, 18 and 19 are not connected.; Published: 8-Jun-2000; Revision: 17-Jul-2002: Re-released for DXP Platform.; Datasheet: Latest Revision: REV. B; Package Reference: E-20A; Publisher: Altium Limited
footprint E-20A (Leadless Chip Carrier; 20 Terminals; Body 8.9 x 8.9 mm)
pins: 1 NC, 2 OS NULL, 3 NC, 4 NC, 5 IN- (in), 6 NC, 7 IN+ (in), 8 NC, 9 NC, 10 V- (power), 11 NC, 12 NC, 13 NC, 14 NC, 15 OUT (out), 16 NC, 17 V+ (power), 18 NC, 19 NC, 20 OS NULL
text: 1, 3, 4, 6, 8; 9, 11 - 14; 16, 18, 19

## AD841SH
designator U?
Wideband, Unity-Gain Stable, Fast-Settling Operational Amplifier; Revision 1: 17-Jul-2002: Re-released for DXP Platform.; Revision 2: 28-Feb-2003: PCB Footprint, 'QCAN-12/X1.4' replaced.; Package Information: Latest Revision: revC, 1990; Note: Pins 1, 2, 7, 8 and 9 are not connected; Pin 12 connected to case; Published: 8-Jun-2000; Datasheet: Latest Revision: REV. B; Package Reference: H-12A; Publisher: Altium Limited
footprint H-12A (Can; 12 Leads; 10.16 mm Square Array; Lead Dia. 0.53 mm (max))
pins: 1 NC, 2 NC, 3 BAL, 4 BAL, 5 IN- (in), 6 IN+ (in), 7 NC, 8 NC, 9 NC, 10 V- (power), 11 OUT (out), 12 V+ (power)
text: 1, 2, 7 - 9

## AD841SH/883B
designator U?
Wideband, Unity-Gain Stable, Fast-Settling Operational Amplifier; Revision 1: 17-Jul-2002: Re-released for DXP Platform.; Revision 2: 28-Feb-2003: PCB Footprint, 'QCAN-12/X1.4' replaced.; Package Information: Latest Revision: revC, 1990; Note: Pins 1, 2, 7, 8 and 9 are not connected; Pin 12 connected to case; Published: 8-Jun-2000; Datasheet: Latest Revision: REV. B; Package Reference: H-12A; Publisher: Altium Limited
footprint H-12A (Can; 12 Leads; 10.16 mm Square Array; Lead Dia. 0.53 mm (max))
pins: 1 NC, 2 NC, 3 BAL, 4 BAL, 5 IN- (in), 6 IN+ (in), 7 NC, 8 NC, 9 NC, 10 V- (power), 11 OUT (out), 12 V+ (power)
text: 1, 2, 7 - 9

## AD841SQ
designator U?
Wideband, Unity-Gain Stable, Fast-Settling Operational Amplifier; Package Information: Latest Revision: revC; Note: Pins 1, 2, 7, 8, 9, 13 and 14 are not connected.; Published: 8-Jun-2000; Revision: 17-Jul-2002: Re-released for DXP Platform.; Datasheet: Latest Revision: REV. B; Package Reference: Q-14A; Publisher: Altium Limited
footprint Q-14A (DIP; 14 Leads; Row Spacing 7.62 mm; Pitch 2.54 mm)
pins: 1 NC, 2 NC, 3 OS NULL, 4 IN- (in), 5 IN+ (in), 6 V- (power), 7 NC, 8 NC, 9 NC, 10 OUT (out), 11 V+ (power), 12 OS NULL, 13 NC, 14 NC
text: 1, 13, 14; 2, 7 - 9

## AD841SQ/883B
designator U?
Wideband, Unity-Gain Stable, Fast-Settling Operational Amplifier; Package Information: Latest Revision: revC; Note: Pins 1, 2, 7, 8, 9, 13 and 14 are not connected.; Published: 8-Jun-2000; Revision: 17-Jul-2002: Re-released for DXP Platform.; Datasheet: Latest Revision: REV. B; Package Reference: Q-14A; Publisher: Altium Limited
footprint Q-14A (DIP; 14 Leads; Row Spacing 7.62 mm; Pitch 2.54 mm)
pins: 1 NC, 2 NC, 3 OS NULL, 4 IN- (in), 5 IN+ (in), 6 V- (power), 7 NC, 8 NC, 9 NC, 10 OUT (out), 11 V+ (power), 12 OS NULL, 13 NC, 14 NC
text: 1, 13, 14; 2, 7 - 9

## AD842JH
designator U?
Wideband, High-Output-Current, Fast-Settling Operational Amplifier; Revision 1: 17-Jul-2002: Re-released for DXP Platform.; Revision 2: 28-Feb-2003: PCB Footprint, 'QCAN-12/X1.4' replaced.; Package Information: Latest Revision: revC, 1990; Note: Pins 1, 2, 7, 8 and 9 are not connected; Pin 12 connected to case; Published: 8-Jun-2000; Datasheet: Latest Revision: REV. D; Package Reference: H-12A; Publisher: Altium Limited
footprint H-12A (Can; 12 Leads; 10.16 mm Square Array; Lead Dia. 0.53 mm (max))
pins: 1 NC, 2 NC, 3 BAL, 4 BAL, 5 IN- (in), 6 IN+ (in), 7 NC, 8 NC, 9 NC, 10 V- (power), 11 OUT (out), 12 V+ (power)
text: 1, 2, 7 - 9

## AD842JN
designator U?
Wideband, High-Output-Current, Fast-Settling Operational Amplifier; Package Information: Latest Revision: 1999; Note: Pins 1, 2, 7, 8, 9, 12 and 14 are not connected; Published: 8-Jun-2000; Revision: 17-Jul-2002: Re-released for DXP Platform.; Datasheet: Amplifier Reference Manual (1992); Package Reference: N-14; Publisher: Altium Limited
footprint N-14 (DIP; 14 Leads; Row Spacing 7.62 mm; Pitch 2.54 mm)
pins: 1 NC, 2 NC, 3 BAL, 4 IN- (in), 5 IN+ (in), 6 V- (power), 7 NC, 8 NC, 9 NC, 10 OUT (out), 11 V+ (power), 12 NC, 13 BAL, 14 NC
text: 12, 14; 7, 8, 9; 1, 2

## AD842JQ
designator U?
Wideband, High-Output-Current, Fast-Settling Operational Amplifier; Package Information: Latest Revision: revB; Note: Pins 1, 2, 7, 8, 9, 12 and 14 are not connected; Published: 8-Jun-2000; Revision: 17-Jul-2002: Re-released for DXP Platform.; Datasheet: Amplifier Reference Manual (1992); Package Reference: Q-14; Publisher: Altium Limited
footprint Q-14 (DIP; 14 Leads; Row Spacing 7.62 mm; Pitch 2.54 mm)
pins: 1 NC, 2 NC, 3 BAL, 4 IN- (in), 5 IN+ (in), 6 V- (power), 7 NC, 8 NC, 9 NC, 10 OUT (out), 11 V+ (power), 12 NC, 13 BAL, 14 NC
text: 12, 14; 7, 8, 9; 1, 2

## AD842KH
designator U?
Wideband, High-Output-Current, Fast-Settling Operational Amplifier; Revision 1: 17-Jul-2002: Re-released for DXP Platform.; Revision 2: 28-Feb-2003: PCB Footprint, 'QCAN-12/X1.4' replaced.; Package Information: Latest Revision: revC, 1990; Note: Pins 1, 2, 7, 8 and 9 are not connected; Pin 12 connected to case; Published: 8-Jun-2000; Datasheet: Latest Revision: REV. D; Package Reference: H-12A; Publisher: Altium Limited
footprint H-12A (Can; 12 Leads; 10.16 mm Square Array; Lead Dia. 0.53 mm (max))
pins: 1 NC, 2 NC, 3 BAL, 4 BAL, 5 IN- (in), 6 IN+ (in), 7 NC, 8 NC, 9 NC, 10 V- (power), 11 OUT (out), 12 V+ (power)
text: 1, 2, 7 - 9

## AD842KN
designator U?
Wideband, High-Output-Current, Fast-Settling Operational Amplifier; Package Information: Latest Revision: 1999; Note: Pins 1, 2, 7, 8, 9, 12 and 14 are not connected; Published: 8-Jun-2000; Revision: 17-Jul-2002: Re-released for DXP Platform.; Datasheet: Amplifier Reference Manual (1992); Package Reference: N-14; Publisher: Altium Limited
footprint N-14 (DIP; 14 Leads; Row Spacing 7.62 mm; Pitch 2.54 mm)
pins: 1 NC, 2 NC, 3 BAL, 4 IN- (in), 5 IN+ (in), 6 V- (power), 7 NC, 8 NC, 9 NC, 10 OUT (out), 11 V+ (power), 12 NC, 13 BAL, 14 NC
text: 12, 14; 7, 8, 9; 1, 2

## AD842KQ
designator U?
Wideband, High-Output-Current, Fast-Settling Operational Amplifier; Package Information: Latest Revision: revB; Note: Pins 1, 2, 7, 8, 9, 12 and 14 are not connected; Published: 8-Jun-2000; Revision: 17-Jul-2002: Re-released for DXP Platform.; Datasheet: Amplifier Reference Manual (1992); Package Reference: Q-14; Publisher: Altium Limited
footprint Q-14 (DIP; 14 Leads; Row Spacing 7.62 mm; Pitch 2.54 mm)
pins: 1 NC, 2 NC, 3 BAL, 4 IN- (in), 5 IN+ (in), 6 V- (power), 7 NC, 8 NC, 9 NC, 10 OUT (out), 11 V+ (power), 12 NC, 13 BAL, 14 NC
text: 12, 14; 7, 8, 9; 1, 2

## AD842SE/883B
designator U?
Wideband, High-Output-Current, Fast-Settling Operational Amplifier; Note: Pins 1, 3, 4, 6, 8, 9, 11, 12, 13, 14, 16, 18 and 19 are not connected.; Published: 8-Jun-2000; Revision: 17-Jul-2002: Re-released for DXP Platform.; Datasheet: Amplifier Reference Manual (1992); Package Reference: E-20A; Publisher: Altium Limited
footprint E-20A (Leadless Chip Carrier; 20 Terminals; Body 8.9 x 8.9 mm)
pins: 1 NC, 2 BAL, 3 NC, 4 NC, 5 IN- (in), 6 NC, 7 IN+ (in), 8 NC, 9 NC, 10 V- (power), 11 NC, 12 NC, 13 NC, 14 NC, 15 OUT (out), 16 NC, 17 V+ (power), 18 NC, 19 NC, 20 BAL
text: 9, 11 - 14; 1, 3, 4, 6, 8; 16, 18, 19

## AD842SH
designator U?
Wideband, High-Output-Current, Fast-Settling Operational Amplifier; Revision 1: 17-Jul-2002: Re-released for DXP Platform.; Revision 2: 28-Feb-2003: PCB Footprint, 'QCAN-12/X1.4' replaced.; Package Information: Latest Revision: revC, 1990; Note: Pins 1, 2, 7, 8 and 9 are not connected; Pin 12 connected to case; Published: 8-Jun-2000; Datasheet: Latest Revision: REV. D; Package Reference: H-12A; Publisher: Altium Limited
footprint H-12A (Can; 12 Leads; 10.16 mm Square Array; Lead Dia. 0.53 mm (max))
pins: 1 NC, 2 NC, 3 BAL, 4 BAL, 5 IN- (in), 6 IN+ (in), 7 NC, 8 NC, 9 NC, 10 V- (power), 11 OUT (out), 12 V+ (power)
text: 1, 2, 7 - 9

## AD842SH/883B
designator U?
Wideband, High-Output-Current, Fast-Settling Operational Amplifier; Revision 1: 17-Jul-2002: Re-released for DXP Platform.; Revision 2: 28-Feb-2003: PCB Footprint, 'QCAN-12/X1.4' replaced.; Package Information: Latest Revision: revC, 1990; Note: Pins 1, 2, 7, 8 and 9 are not connected; Pin 12 connected to case; Published: 8-Jun-2000; Datasheet: Latest Revision: REV. D; Package Reference: H-12A; Publisher: Altium Limited
footprint H-12A (Can; 12 Leads; 10.16 mm Square Array; Lead Dia. 0.53 mm (max))
pins: 1 NC, 2 NC, 3 BAL, 4 BAL, 5 IN- (in), 6 IN+ (in), 7 NC, 8 NC, 9 NC, 10 V- (power), 11 OUT (out), 12 V+ (power)
text: 1, 2, 7 - 9

## AD842SQ
designator U?
Wideband, High-Output-Current, Fast-Settling Operational Amplifier; Package Information: Latest Revision: revB; Note: Pins 1, 2, 7, 8, 9, 12 and 14 are not connected; Published: 8-Jun-2000; Revision: 17-Jul-2002: Re-released for DXP Platform.; Datasheet: Amplifier Reference Manual (1992); Package Reference: Q-14; Publisher: Altium Limited
footprint Q-14 (DIP; 14 Leads; Row Spacing 7.62 mm; Pitch 2.54 mm)
pins: 1 NC, 2 NC, 3 BAL, 4 IN- (in), 5 IN+ (in), 6 V- (power), 7 NC, 8 NC, 9 NC, 10 OUT (out), 11 V+ (power), 12 NC, 13 BAL, 14 NC
text: 12, 14; 7, 8, 9; 1, 2

## AD842SQ/883B
designator U?
Wideband, High-Output-Current, Fast-Settling Operational Amplifier; Package Information: Latest Revision: revB; Note: Pins 1, 2, 7, 8, 9, 12 and 14 are not connected; Published: 8-Jun-2000; Revision: 17-Jul-2002: Re-released for DXP Platform.; Datasheet: Amplifier Reference Manual (1992); Package Reference: Q-14; Publisher: Altium Limited
footprint Q-14 (DIP; 14 Leads; Row Spacing 7.62 mm; Pitch 2.54 mm)
pins: 1 NC, 2 NC, 3 BAL, 4 IN- (in), 5 IN+ (in), 6 V- (power), 7 NC, 8 NC, 9 NC, 10 OUT (out), 11 V+ (power), 12 NC, 13 BAL, 14 NC
text: 12, 14; 7, 8, 9; 1, 2

## AD843AQ
designator U?
34MHz, CBFET Fast-Settling Operational Amplifier; Revision 1: 10-Jul-2000: SIM Model Added.; Revision 2: 17-Jul-2002: Re-released for DXP Platform.; Package Information: Latest Revision: 1998; Note: Pin 5 is not connected.; Published: 8-Jun-2000; Datasheet: Latest Revision: REV. D 1995; Package Reference: Q-8; Publisher: Altium Limited
footprint Q-8 (DIP; 8 Leads; Row Spacing 7.62 mm; Pitch 2.54 mm)
simulation model AD843A (SUBCKT)
pins: 1 CMPEN, 2 IN- (in), 3 IN+ (in), 4 V- (power), 5 NC, 6 OUT (out), 7 V+ (power), 8 CMPEN

## AD843BH
designator U?
34MHz, CBFET Fast-Settling Operational Amplifier; Revision 1: 10-Jul-2000: SIM Model Added.; Revision 2: 17-Jul-2002: Re-released for DXP Platform.; Revision 3: 28-Feb-2003: PCB Footprint, 'QCAN-12/X1.4' replaced.; Package Information: Latest Revision: revC, 1990; Note: Pins 1, 2, 7, 8 and 9 are not connected; Pin 12 connected to case; Published: 8-Jun-2000; Datasheet: Latest Revision: REV. D 1995; Package Reference: H-12A; Publisher: Altium Limited
footprint H-12A (Can; 12 Leads; 10.16 mm Square Array; Lead Dia. 0.53 mm (max))
simulation model AD843B (SUBCKT)
pins: 1 NC, 2 NC, 3 BAL, 4 BAL, 5 IN- (in), 6 IN+ (in), 7 NC, 8 NC, 9 NC, 10 V- (power), 11 OUT (out), 12 V+ (power)
text: 1, 2, 7 - 9

## AD843BQ
designator U?
34MHz, CBFET Fast-Settling Operational Amplifier; Revision 1: 10-Jul-2000: SIM Model Added.; Revision 2: 17-Jul-2002: Re-released for DXP Platform.; Package Information: Latest Revision: 1998; Note: Pin 5 is not connected.; Published: 8-Jun-2000; Datasheet: Latest Revision: REV. D 1995; Package Reference: Q-8; Publisher: Altium Limited
footprint Q-8 (DIP; 8 Leads; Row Spacing 7.62 mm; Pitch 2.54 mm)
simulation model AD843B (SUBCKT)
pins: 1 CMPEN, 2 IN- (in), 3 IN+ (in), 4 V- (power), 5 NC, 6 OUT (out), 7 V+ (power), 8 CMPEN

## AD843JN
designator U?
34MHz, CBFET Fast-Settling Operational Amplifier; Revision 1: 10-Jul-2000: SIM Model Added.; Revision 2: 17-Jul-2002: Re-released for DXP Platform.; Package Information: Latest Revision: revA; Note: Pin 5 is not connected.; Published: 8-Jun-2000; Datasheet: Latest Revision: REV. D 1995; Package Reference: N-8; Publisher: Altium Limited
footprint N-8 (DIP; 8 Leads; Row Spacing 7.62 mm; Pitch 2.54 mm)
simulation model AD843J (SUBCKT)
pins: 1 CMPEN, 2 IN- (in), 3 IN+ (in), 4 V- (power), 5 NC, 6 OUT (out), 7 V+ (power), 8 CMPEN

## AD843JR-16
designator U?
34MHz, CBFET Fast-Settling Operational Amplifier; Revision 1: 10-Jul-2000: SIM Model Added.; Revision 2: 17-Jul-2002: Re-released for DXP Platform.; Package Information: Latest Revision: revA 1996; Note: Pins 1, 2, 7, 8, 9, 10, 11,15 and 16 are not connected; Code - JEDEC: MS-013-AA; Code - IPC: SO16W; Published: 8-Jun-2000; Datasheet: Latest Revision: REV. D 1995; Package Reference: R-16; Publisher: Altium Limited
footprint R-16 (Small Outline; 16 Leads; Body Width 7.5 mm; Pitch 1.27 mm)
simulation model AD843J (SUBCKT)
pins: 1 NC, 2 NC, 3 BAL, 4 IN- (in), 5 IN+ (in), 6 V- (power), 7 NC, 8 NC, 9 NC, 10 NC, 11 NC, 12 OUT (out), 13 V+ (power), 14 BAL, 15 NC, 16 NC
text: 1, 15; 7 - 11; 2, 16

## AD843KN
designator U?
34MHz, CBFET Fast-Settling Operational Amplifier; Revision 1: 10-Jul-2000: SIM Model Added.; Revision 2: 17-Jul-2002: Re-released for DXP Platform.; Package Information: Latest Revision: revA; Note: Pin 5 is not connected.; Published: 8-Jun-2000; Datasheet: Latest Revision: REV. D 1995; Package Reference: N-8; Publisher: Altium Limited
footprint N-8 (DIP; 8 Leads; Row Spacing 7.62 mm; Pitch 2.54 mm)
simulation model AD843K (SUBCKT)
pins: 1 CMPEN, 2 IN- (in), 3 IN+ (in), 4 V- (power), 5 NC, 6 OUT (out), 7 V+ (power), 8 CMPEN

## AD843SE
designator U?
34MHz, CBFET Fast-Settling Operational Amplifier; Revision 1: 10-Jul-2000: SIM Model Added.; Revision 2: 17-Jul-2002: Re-released for DXP Platform.; Note: Pins 1, 3, 4, 6, 8, 9, 11, 12, 13, 14, 16, 18 and 19 are not connected.; Published: 8-Jun-2000; Datasheet: Amplifier Reference Manual (1992); Package Reference: E-20A; Publisher: Altium Limited
footprint E-20A (Leadless Chip Carrier; 20 Terminals; Body 8.9 x 8.9 mm)
simulation model AD843S (SUBCKT)
pins: 1 NC, 2 OS NULL, 3 NC, 4 NC, 5 IN- (in), 6 NC, 7 IN+ (in), 8 NC, 9 NC, 10 V- (power), 11 NC, 12 NC, 13 NC, 14 NC, 15 OUT (out), 16 NC, 17 V+ (power), 18 NC, 19 NC, 20 OS NULL
text: 1, 3, 4, 6, 8; 9, 11 - 14; 16, 18, 19

## AD843SE/883B
designator U?
34MHz, CBFET Fast-Settling Operational Amplifier; Revision 1: 10-Jul-2000: SIM Model Added.; Revision 2: 17-Jul-2002: Re-released for DXP Platform.; Note: Pins 1, 3, 4, 6, 8, 9, 11, 12, 13, 14, 16, 18 and 19 are not connected.; Published: 8-Jun-2000; Datasheet: Latest Revision: REV. D 1995; Package Reference: E-20A; Publisher: Altium Limited
footprint E-20A (Leadless Chip Carrier; 20 Terminals; Body 8.9 x 8.9 mm)
simulation model AD843S (SUBCKT)
pins: 1 NC, 2 OS NULL, 3 NC, 4 NC, 5 IN- (in), 6 NC, 7 IN+ (in), 8 NC, 9 NC, 10 V- (power), 11 NC, 12 NC, 13 NC, 14 NC, 15 OUT (out), 16 NC, 17 V+ (power), 18 NC, 19 NC, 20 OS NULL
text: 1, 3, 4, 6, 8; 9, 11 - 14; 16, 18, 19

## AD843SH
designator U?
34MHz, CBFET Fast-Settling Operational Amplifier; Revision 1: 10-Jul-2000: SIM Model Added.; Revision 2: 17-Jul-2002: Re-released for DXP Platform.; Revision 3: 28-Feb-2003: PCB Footprint, 'QCAN-12/X1.4' replaced.; Package Information: Latest Revision: revC, 1990; Note: Pins 1, 2, 7, 8 and 9 are not connected; Pin 12 connected to case; Published: 8-Jun-2000; Datasheet: Latest Revision: REV. D 1995; Package Reference: H-12A; Publisher: Altium Limited
footprint H-12A (Can; 12 Leads; 10.16 mm Square Array; Lead Dia. 0.53 mm (max))
simulation model AD843S (SUBCKT)
pins: 1 NC, 2 NC, 3 BAL, 4 BAL, 5 IN- (in), 6 IN+ (in), 7 NC, 8 NC, 9 NC, 10 V- (power), 11 OUT (out), 12 V+ (power)
text: 1, 2, 7 - 9

## AD843SH/883B
designator U?
34MHz, CBFET Fast-Settling Operational Amplifier; Revision 1: 10-Jul-2000: SIM Model Added.; Revision 2: 17-Jul-2002: Re-released for DXP Platform.; Revision 3: 28-Feb-2003: PCB Footprint, 'QCAN-12/X1.4' replaced.; Package Information: Latest Revision: revC, 1990; Note: Pins 1, 2, 7, 8 and 9 are not connected; Pin 12 connected to case; Published: 8-Jun-2000; Datasheet: Latest Revision: REV. D 1995; Package Reference: H-12A; Publisher: Altium Limited
footprint H-12A (Can; 12 Leads; 10.16 mm Square Array; Lead Dia. 0.53 mm (max))
simulation model AD843S (SUBCKT)
pins: 1 NC, 2 NC, 3 BAL, 4 BAL, 5 IN- (in), 6 IN+ (in), 7 NC, 8 NC, 9 NC, 10 V- (power), 11 OUT (out), 12 V+ (power)
text: 1, 2, 7 - 9

## AD843SQ
designator U?
34MHz, CBFET Fast-Settling Operational Amplifier; Revision 1: 10-Jul-2000: SIM Model Added.; Revision 2: 17-Jul-2002: Re-released for DXP Platform.; Package Information: Latest Revision: 1998; Note: Pin 5 is not connected.; Published: 8-Jun-2000; Datasheet: Latest Revision: REV. D 1995; Package Reference: Q-8; Publisher: Altium Limited
footprint Q-8 (DIP; 8 Leads; Row Spacing 7.62 mm; Pitch 2.54 mm)
simulation model AD843S (SUBCKT)
pins: 1 CMPEN, 2 IN- (in), 3 IN+ (in), 4 V- (power), 5 NC, 6 OUT (out), 7 V+ (power), 8 CMPEN

## AD843SQ/883B
designator U?
34MHz, CBFET Fast-Settling Operational Amplifier; Revision 1: 10-Jul-2000: SIM Model Added.; Revision 2: 17-Jul-2002: Re-released for DXP Platform.; Package Information: Latest Revision: 1998; Note: Pin 5 is not connected.; Published: 8-Jun-2000; Datasheet: Latest Revision: REV. D 1995; Package Reference: Q-8; Publisher: Altium Limited
footprint Q-8 (DIP; 8 Leads; Row Spacing 7.62 mm; Pitch 2.54 mm)
simulation model AD843S (SUBCKT)
pins: 1 CMPEN, 2 IN- (in), 3 IN+ (in), 4 V- (power), 5 NC, 6 OUT (out), 7 V+ (power), 8 CMPEN

## AD844AN
designator U?
60MHz, 2000V/uS Monolithic Operational Amplifier; Revision 1: 10-Jul-2000: SIM Model Added.; Revision 2: 17-Jul-2002: Re-released for DXP Platform.; Package Information: Latest Revision: revA; Note: Pin 5 is not connected.; Published: 8-Jun-2000; Datasheet: Latest Revision: REV. C; Package Reference: N-8; Publisher: Altium Limited
footprint N-8 (DIP; 8 Leads; Row Spacing 7.62 mm; Pitch 2.54 mm)
simulation model AD844A (SUBCKT)
pins: 1 NUL, 2 IN- (in), 3 IN+ (in), 4 V- (power), 5 TZ, 6 OUT (out), 7 V+ (power), 8 NUL

## AD844AQ
designator U?
60MHz, 2000V/uS Monolithic Operational Amplifier; Revision 1: 10-Jul-2000: SIM Model Added.; Revision 2: 17-Jul-2002: Re-released for DXP Platform.; Package Information: Latest Revision: 1998; Note: Pin 5 is not connected.; Published: 8-Jun-2000; Datasheet: Latest Revision: REV. C; Package Reference: Q-8; Publisher: Altium Limited
footprint Q-8 (DIP; 8 Leads; Row Spacing 7.62 mm; Pitch 2.54 mm)
simulation model AD844A (SUBCKT)
pins: 1 NUL, 2 IN- (in), 3 IN+ (in), 4 V- (power), 5 TZ, 6 OUT (out), 7 V+ (power), 8 NUL

## AD844BQ
designator U?
60MHz, 2000V/uS Monolithic Operational Amplifier; Revision 1: 10-Jul-2000: SIM Model Added.; Revision 2: 17-Jul-2002: Re-released for DXP Platform.; Package Information: Latest Revision: 1998; Note: Pin 5 is not connected.; Published: 8-Jun-2000; Datasheet: Latest Revision: REV. C; Package Reference: Q-8; Publisher: Altium Limited
footprint Q-8 (DIP; 8 Leads; Row Spacing 7.62 mm; Pitch 2.54 mm)
simulation model AD844B (SUBCKT)
pins: 1 NUL, 2 IN- (in), 3 IN+ (in), 4 V- (power), 5 TZ, 6 OUT (out), 7 V+ (power), 8 NUL

## AD844JR
designator U?
60MHz, 2000V/uS Monolithic Operational Amplifier; Revision 1: 10-Jul-2000: SIM Model Added.; Revision 2: 17-Jul-2002: Re-released for DXP Platform.; Package Information: Latest Revision: revA 1996; Note: Pins 1, 4, 6, 8, 9, 10, 13, and 16 are not connected; Code - JEDEC: MS-013-AA; Code - IPC: SO16W; Published: 8-Jun-2000; Datasheet: Latest Revision: REV. C; Package Reference: R-16; Publisher: Altium Limited
footprint R-16 (Small Outline; 16 Leads; Body Width 7.5 mm; Pitch 1.27 mm)
simulation model AD844 (SUBCKT)
pins: 1 NC, 2 OS NUL, 3 IN- (in), 4 NC, 5 IN+ (in), 6 NC, 7 V- (power), 8 NC, 9 NC, 10 NC, 11 NC, 12 OUT (out), 13 NC, 14 V+ (power), 15 OS NUL, 16 NC
text: 1, 4, 6; 8 - 11; 13, 16

## AD844SQ
designator U?
60MHz, 2000V/uS Monolithic Operational Amplifier; Revision 1: 10-Jul-2000: SIM Model Added.; Revision 2: 17-Jul-2002: Re-released for DXP Platform.; Package Information: Latest Revision: 1998; Note: Pin 5 is not connected.; Published: 8-Jun-2000; Datasheet: Latest Revision: REV. C; Package Reference: Q-8; Publisher: Altium Limited
footprint Q-8 (DIP; 8 Leads; Row Spacing 7.62 mm; Pitch 2.54 mm)
simulation model AD844S (SUBCKT)
pins: 1 NUL, 2 IN- (in), 3 IN+ (in), 4 V- (power), 5 TZ, 6 OUT (out), 7 V+ (power), 8 NUL

## AD844SQ/883B
designator U?
60MHz, 2000V/uS Monolithic Operational Amplifier; Revision 1: 10-Jul-2000: SIM Model Added.; Revision 2: 17-Jul-2002: Re-released for DXP Platform.; Package Information: Latest Revision: 1998; Note: Pin 5 is not connected.; Published: 8-Jun-2000; Datasheet: Latest Revision: REV. C; Package Reference: Q-8; Publisher: Altium Limited
footprint Q-8 (DIP; 8 Leads; Row Spacing 7.62 mm; Pitch 2.54 mm)
simulation model AD844S (SUBCKT)
pins: 1 NUL, 2 IN- (in), 3 IN+ (in), 4 V- (power), 5 TZ, 6 OUT (out), 7 V+ (power), 8 NUL

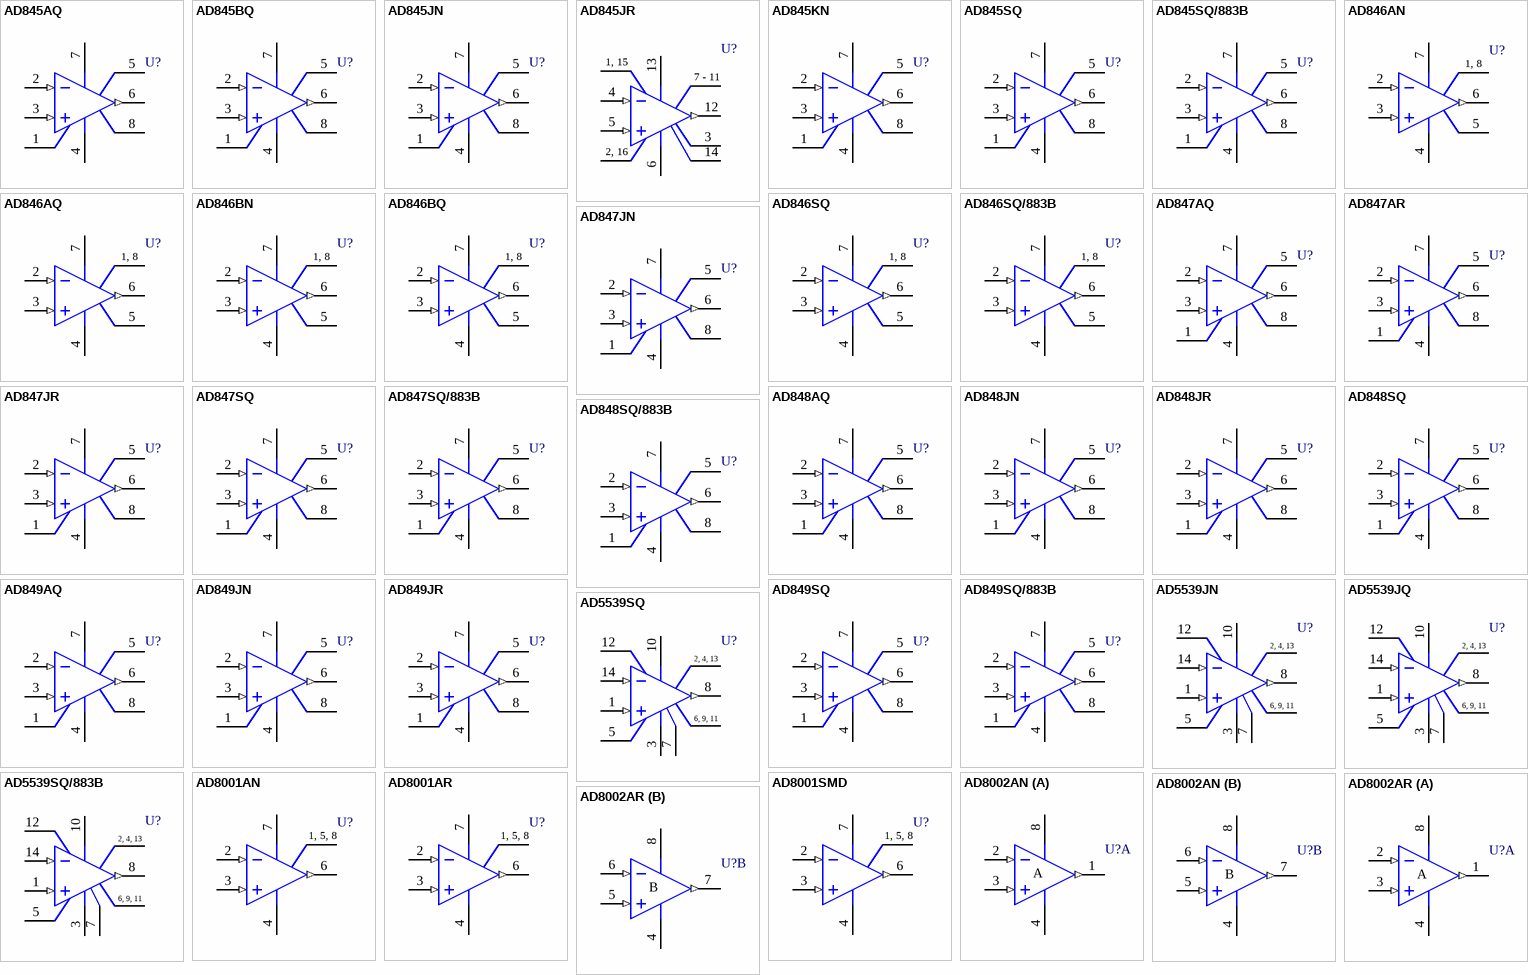
[diagram p13: symbols AD845AQ to AD8002AR]

## AD845AQ
designator U?
Precision, 16MHz CBFET Operational Amplifier; Revision 1: 10-Jul-2000: SIM Model Added.; Revision 2: 17-Jul-2002: Re-released for DXP Platform.; Package Information: Latest Revision: 1998; Note: Pin 5 is not connected.; Published: 8-Jun-2000; Datasheet: Latest Revision: REV. D; Package Reference: Q-8; Publisher: Altium Limited
footprint Q-8 (DIP; 8 Leads; Row Spacing 7.62 mm; Pitch 2.54 mm)
simulation model AD845A (SUBCKT)
pins: 1 NULL1, 2 IN- (in), 3 IN+ (in), 4 V- (power), 5 NC, 6 OUT (out), 7 V+ (power), 8 NULL2

## AD845BQ
designator U?
Precision, 16MHz CBFET Operational Amplifier; Revision 1: 10-Jul-2000: SIM Model Added.; Revision 2: 17-Jul-2002: Re-released for DXP Platform.; Package Information: Latest Revision: 1998; Note: Pin 5 is not connected.; Published: 8-Jun-2000; Datasheet: Latest Revision: REV. D; Package Reference: Q-8; Publisher: Altium Limited
footprint Q-8 (DIP; 8 Leads; Row Spacing 7.62 mm; Pitch 2.54 mm)
simulation model AD845B (SUBCKT)
pins: 1 NULL1, 2 IN- (in), 3 IN+ (in), 4 V- (power), 5 NC, 6 OUT (out), 7 V+ (power), 8 NULL2

## AD845JN
designator U?
Precision, 16MHz CBFET Operational Amplifier; Revision 1: 10-Jul-2000: SIM Model Added.; Revision 2: 17-Jul-2002: Re-released for DXP Platform.; Package Information: Latest Revision: revA; Note: Pin 5 is not connected.; Published: 8-Jun-2000; Datasheet: Latest Revision: REV. D; Package Reference: N-8; Publisher: Altium Limited
footprint N-8 (DIP; 8 Leads; Row Spacing 7.62 mm; Pitch 2.54 mm)
simulation model AD845J (SUBCKT)
pins: 1 NULL1, 2 IN- (in), 3 IN+ (in), 4 V- (power), 5 NC, 6 OUT (out), 7 V+ (power), 8 NULL2